# Altium schematic symbol library NDK America.SchLib: 1 symbol
Pins are listed as number, name and electrical type; pins without a type are passive.

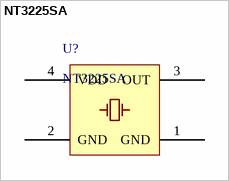
[diagram p0: symbol NT3225SA]

## NT3225SA
designator U?
pins: 1 GND, 2 GND, 3 OUT, 4 VDD